# EAGLE library part 1554ИЕ6 (library std-logic-1554series)
АЕЯР.431200.182-03 ТУ 1554ИЕ6 - Четырехразрядный двоично-десятичный реверсивный счетчик. Изготовитель: ОАО "ИНТЕГРАЛ", г. Минск, р. Беларусь. Технические условия (ТБМ): АЕЯР.431200.182-03 ТУ Технические условия (не ТБМ): АЕЯР.431200.093-04 ТУ
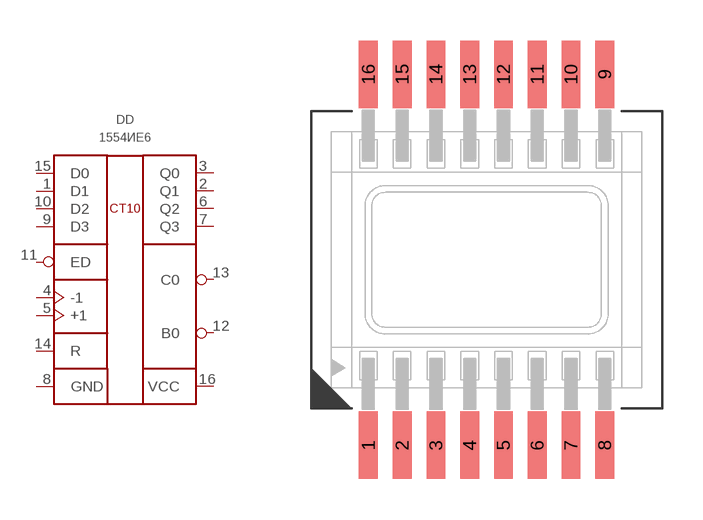
[diagram p32: symbol with the pads of 402.16-32; footprint 402.16-32]

Designator prefix DD

## 1554ИЕ6ТБМ  [402.16-32]
1  D1  in
2  Q1  out
3  Q0  out
4  -1  in
5  +1  in
6  Q2  out
7  Q3  out
8  GND  pwr
9  D3  in
10  D2  in
11  ED  in
12  B0  out
13  C0  out
14  R  in
15  D0  in
16  VCC  pwr

## Footprint 402.16-32 (pad centres in mm)
smd 0.7 x 2.5: 1 -4.375,-6.875; 2 -3.125,-6.875; 3 -1.875,-6.875; 4 -0.625,-6.875; 5 0.625,-6.875; 6 1.875,-6.875; 7 3.125,-6.875; 8 4.375,-6.875; 9 4.375,6.875; 10 3.125,6.875; 11 1.875,6.875; 12 0.625,6.875; 13 -0.625,6.875; 14 -1.875,6.875; 15 -3.125,6.875; 16 -4.375,6.875